# Altium footprint library 28Pins_Project_V1I1.PcbLib: 9 footprints
Each footprint in its own frame and in the unit in brackets; x right, y up, seen from the top. Pads: shape width x height; smd on the part's side, far side on the other; paste and mask are expansions set on the pad; w line width, h text height; cw(c..) or ccw(c..) is an arc to the next point about the centre after c.
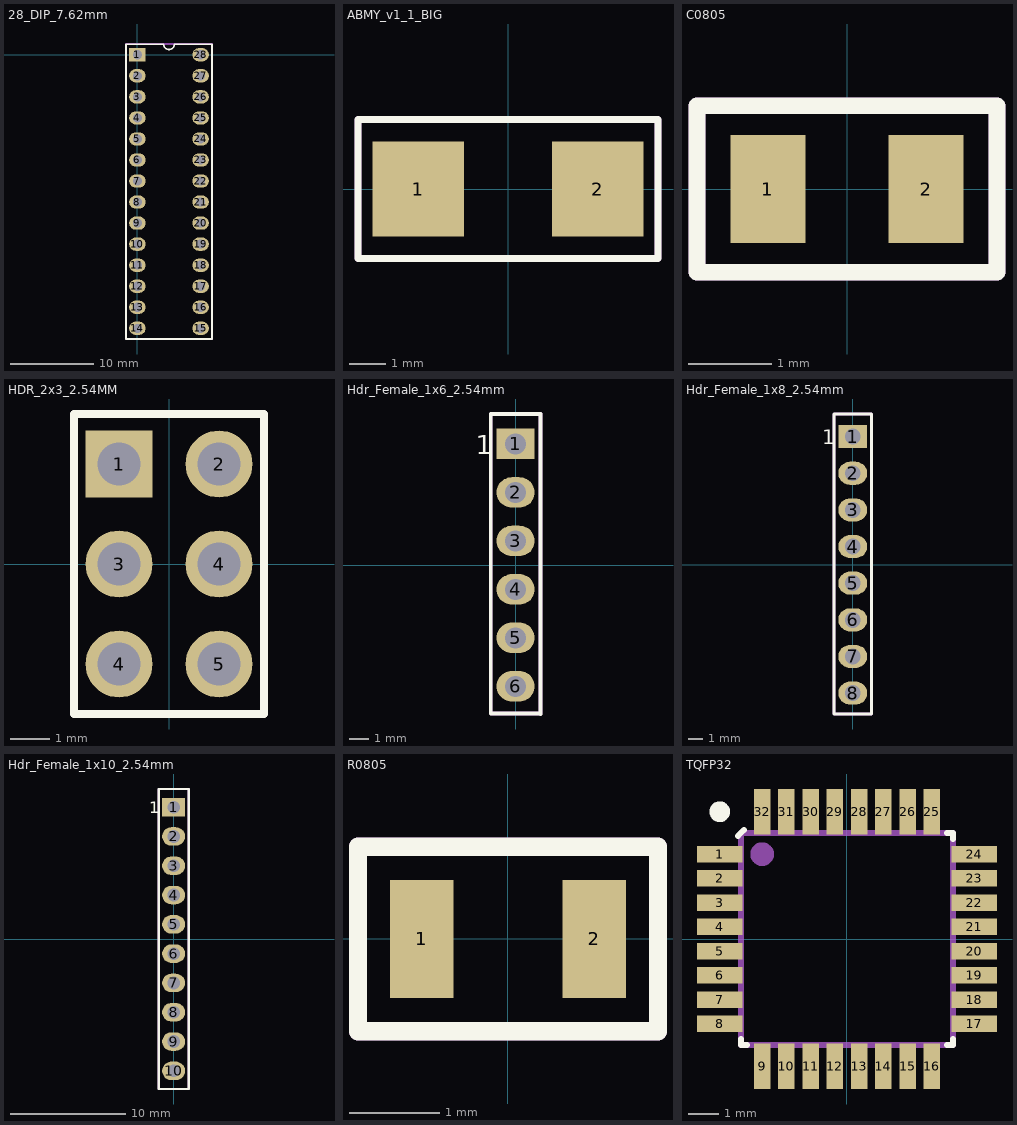
[diagram p0: the footprints below, top view; thin cyan lines are the x and y axes]

## 28_DIP_7.62mm [mm]
pads (28):
  rect 2x1.6 hole 1.1: 1(0,0)
  oval 2x1.6 hole 1.1: 2(0,-2.54) 3(0,-5.08) 4(0,-7.62) 5(0,-10.16) 6(0,-12.7) 7(0,-15.24) 8(0,-17.78) 9(0,-20.32) 10(0,-22.86) 11(0,-25.4) 12(0,-27.94) 13(0,-30.48) 14(0,-33.02) 15(7.62,-33.02) 16(7.62,-30.48) 17(7.62,-27.94) 18(7.62,-25.4) 19(7.62,-22.86) 20(7.62,-20.32) 21(7.62,-17.78) 22(7.62,-15.24) 23(7.62,-12.7) 24(7.62,-10.16) 25(7.62,-7.62) 26(7.62,-5.08) 27(7.62,-2.54) 28(7.62,0)
Top Overlay:
  lines w0.2: -1.39,-34.31 9.01,-34.31 ; -1.39,-34.29 -1.39,1.27 ; -1.39,1.29 3.175,1.29 ; 3.175,1.27 ccw(c3.81,1.27) 4.445,1.27 9.01,1.27 9.01,-34.29
Mechanical 29:
  circle w0.254: c0.01,-0.01 r0.4
  lines w0.254: -1.39,-34.31 9.01,-34.31 9.01,1.29 -1.39,1.29 -1.39,-34.31
  text "'.Designator'" at 5.21,-22.61 h3
3D body "28 pin dip.step": height 4.85, standoff -1.37, extent -0.127,-34.451 7.747,1.49
3D body: height 0.25, standoff 0, extent 14.41,-4.51 14.41,-4.51

## ABMY_v1_1_BIG [mm]
pads (2):
  rect 2.5x2.6 smd: 1(-2.45,0) 2(2.45,0)
Top Overlay:
  lines w0.2: -4.1,-1.9 4.1,-1.9 4.1,1.9 -4.1,1.9 -4.1,-1.9
Mechanical 29:
  lines w0.2: -4.1,-1.9 -4.1,1.9 4.1,1.9 4.1,-1.9 -4.1,-1.9
  text "'.Designator'" at -2.7,-0.7 h1.52
3D body "xtal.STEP": height 1.41, standoff 0.01, extent -2.997,-1.752 2.997,1.753

## C0805 [mm]
pads (2):
  rect 0.9x1.3 smd: 1(-0.95,0) 2(0.95,0)
Top Overlay:
  lines w0.2: -1.8,-1 1.8,-1 1.8,1 -1.8,1 -1.8,-1
Mechanical 29:
  lines w0.2: -1.8,-1 -1.8,1 1.8,1 1.8,-1 -1.8,-1
  text "'.Designator'" at -1.1,-0.5 h1.1
3D body "Capacitor Ceramic X7R 0805 50V 100nF.stp": height 0.88, standoff 0, extent -1.1,-0.725 1.1,0.725
3D body "Capacitor Ceramic X7R 0805 50V 100nF.stp": height 1.38, standoff 0.5, extent -1.1,-0.725 1.1,0.725

## HDR_2x3_2.54MM [mm]
pads (6):
  rect 1.7x1.7 hole 1.1: 1(-1.27,2.54)
  round 1.7 hole 1.1: 2(1.27,2.54) 3(-1.27,0) 4(-1.27,-2.54) 4(1.27,0) 5(1.27,-2.54)
Top Overlay:
  lines w0.2: -2.413,-3.81 -2.413,3.81 2.413,3.81 2.413,-3.81 -2.413,-3.81
3D body "2x3 header.step": height 8.39, standoff -3.8, extent -2.54,-3.81 2.54,3.81

## Hdr_Female_1x6_2.54mm [mm]
pads (6):
  rect 2x1.6 hole 1.1: 1(0,6.35)
  oval 2x1.6 hole 1.1: 2(0,3.81) 3(0,1.27) 4(0,-1.27) 5(0,-3.81) 6(0,-6.35)
Top Overlay:
  lines w0.2: -1.3,-7.78 -0.75,-7.78 0.55,-7.78 1.3,-7.78 ; -1.3,-7.74 -1.3,7.92 1.3,7.92 ; 1.3,-7.8 1.3,7.9
  text "1" at -2.1,5.82 h1
Mechanical 29:
  circle w0.5: c0,6.32 r0.316
  lines w0.2: 1.3,-7.78 -1.26,-7.78 -1.3,-7.74 -1.3,7.92 1.3,7.92 1.3,-7.74
  text "'.Designator'" at 0.8,-1.8 h1.4
3D body "hdr_female_1x6_2.54mm.stp": height 9, standoff -2.5, extent -1.3,-7.7 1.2,7.94

## Hdr_Female_1x8_2.54mm [mm]
pads (8):
  rect 2x1.6 hole 1.1: 1(0,8.89)
  oval 2x1.6 hole 1.1: 2(0,6.35) 3(0,3.81) 4(0,1.27) 5(0,-1.27) 6(0,-3.81) 7(0,-6.35) 8(0,-8.89)
Top Overlay:
  lines w0.2: -1.3,-10.34 -1.3,10.46 1.3,10.46 1.3,-10.34 0.55,-10.34 -0.75,-10.34 -1.3,-10.34
  text "1" at -2.1,8.36 h1
Mechanical 29:
  circle w0.5: c0,8.86 r0.316
  lines w0.2: -1.3,-10.34 -1.3,10.46 1.3,10.46 1.3,-10.34 -1.3,-10.34
  text "'.Designator'" at 0.8,-2.94 h1.4
3D body "hdr_female_1x8_2.54mm.stp": height 9, standoff -2.5, extent -1.2,-10.36 1.3,10.36

## Hdr_Female_1x10_2.54mm [mm]
pads (10):
  rect 2x1.6 hole 1.1: 1(0,11.43)
  oval 2x1.6 hole 1.1: 2(0,8.89) 3(0,6.35) 4(0,3.81) 5(0,1.27) 6(0,-1.27) 7(0,-3.81) 8(0,-6.35) 9(0,-8.89) 10(0,-11.43)
Top Overlay:
  lines w0.2: -1.3,-13 -1.3,13 1.3,13 1.3,-13 0.55,-13 -0.75,-13 -1.3,-13
  text "1" at -2.1,10.9 h1
Mechanical 29:
  circle w0.5: c0,11.4 r0.316
  lines w0.2: -1.3,-13 -1.3,13 1.3,13 1.3,-13 -1.3,-13
  text "'.Designator'" at 0.8,-1.9 h1.4
3D body "hdr_female_1x10_2.54mm.stp": height 9, standoff -2.5, extent -1.3,-12.9 1.2,12.9

## R0805 [mm]
pads (2):
  rect 0.7x1.3 smd: 1(-0.95,0) 2(0.95,0)
Top Overlay:
  lines w0.2: -1.651,-1.016 -1.651,1.016 1.651,1.016 1.651,-1.016 -1.651,-1.016
Mechanical 29:
  lines w0.2: -1.651,-1.016 1.651,-1.016 1.651,1.016 -1.651,1.016 -1.651,-1.016
  text "'.Designator'" at -1.143,-0.635 h1.14
3D body "1m resistor.step": height 0.71, standoff 0.01, extent -1,-0.565 1,0.635

## TQFP32 [mm]
pads (32):
  rect 1.5x0.55 smd mask+0.06: 1(-4.2,2.8) 2(-4.2,2) 3(-4.2,1.2) 4(-4.2,0.4) 5(-4.2,-0.4) 6(-4.2,-1.2) 7(-4.2,-2) 8(-4.2,-2.8) 17(4.2,-2.8) 18(4.2,-2) 19(4.2,-1.2) 20(4.2,-0.4) 21(4.2,0.4) 22(4.2,1.2) 23(4.2,2) 24(4.2,2.8)
  rect 0.55x1.5 smd mask+0.06: 9(-2.8,-4.2) 10(-2,-4.2) 11(-1.2,-4.2) 12(-0.4,-4.2) 13(0.4,-4.2) 14(1.2,-4.2) 15(2,-4.2) 16(2.8,-4.2) 25(2.8,4.2) 26(2,4.2) 27(1.2,4.2) 28(0.4,4.2) 29(-0.4,4.2) 30(-1.2,4.2) 31(-2,4.2) 32(-2.8,4.2)
Top Overlay:
  circle w0.4: c-4.2,4.2 r0.141
  lines w0.2: -3.6,3.4 -3.4,3.6 ; -3.5,-3.3 -3.5,-3.5 -3.3,-3.5 ; 3.3,-3.5 3.5,-3.5 3.5,-3.3 ; 3.3,3.5 3.5,3.5 3.5,3.3
Mechanical 29:
  circle w0.5: c-2.8,2.8 r0.141
  lines w0.2: -3.5,-3.5 3.5,-3.5 3.5,3.5 -3.5,3.5 -3.5,-3.5
  text "'.Designator'" at -1.7,-0.3 h1.8
3D body "tqfp32.step": height 1.2, standoff 0, extent -4.6,-4.599 4.599,4.599
3D body: height 23.05, standoff -12.89, extent 0,0 0,0